# Altium schematic symbol library 32768hz.SchLib: 2 symbols
Pins are listed as number, name and electrical type; pins without a type are passive.

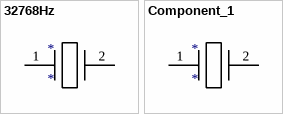
[diagram p0: symbols 32768Hz to Component_1]

## 32768Hz
designator *
footprint 32768hz
pins: 1, 2

## Component_1
designator *
pins: 1, 2